# Altium schematic symbol library mLRS_RX.SCHLIB: 4 symbols
Pins are listed as number, name and electrical type; pins without a type are passive.

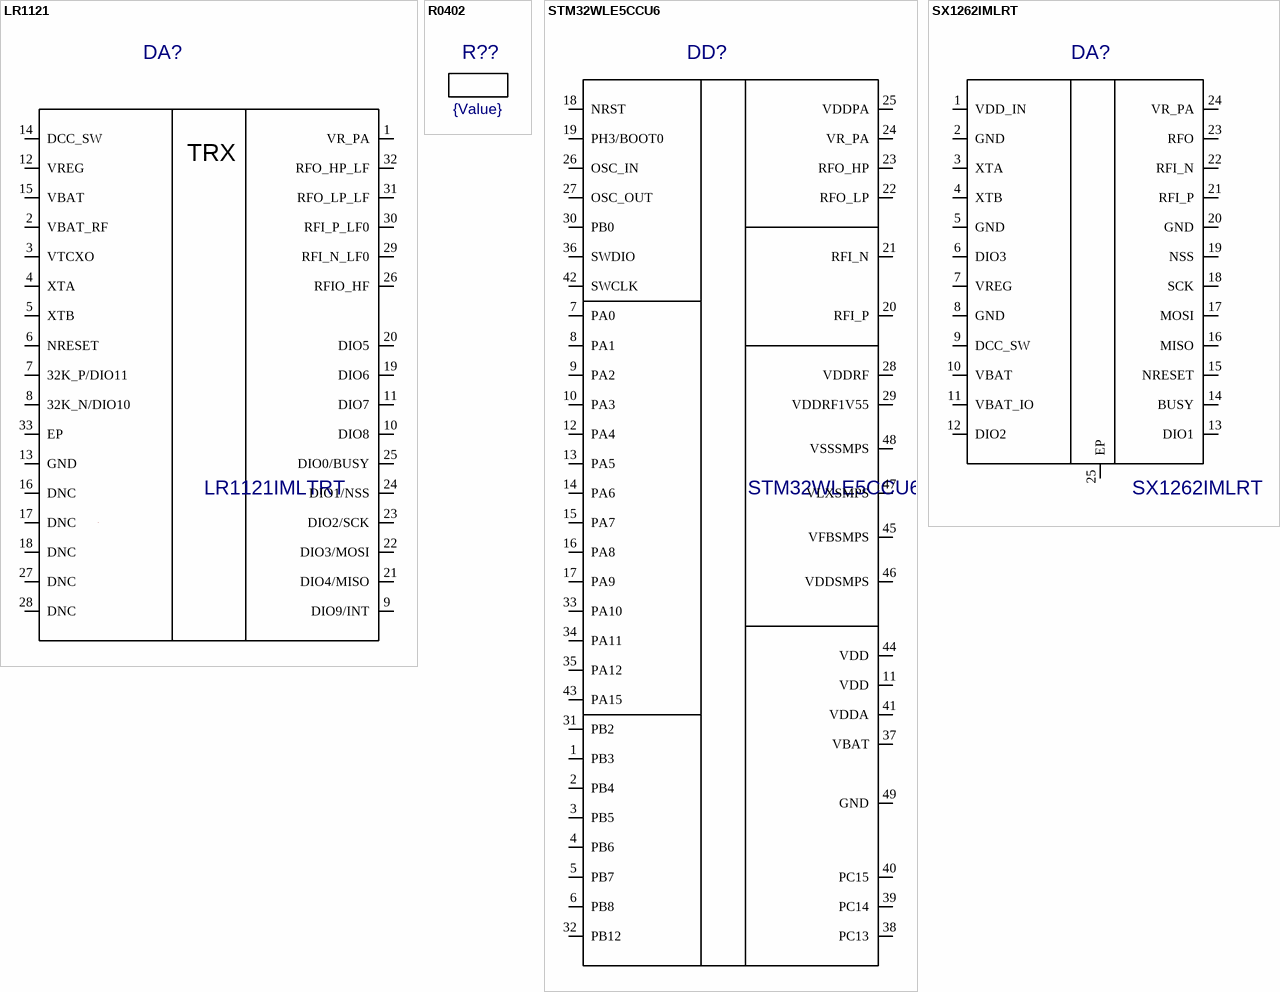
[diagram p0: symbols LR1121 to SX1262IMLRT]

## LR1121
designator DA?, comment LR1121IMLTRT
Value: {Value}; Mounting  Method: SMD
footprint QFN32 (QFN, 32-Leads, Body 5,00x5,00mm, Pitch 0,50mm, Thermal Pad 3,60x3,60mm, IPC Medium Density)
pins: 1 VR_PA, 2 VBAT_RF, 3 VTCXO, 4 XTA, 5 XTB, 6 NRESET, 7 32K_P/DIO11, 8 32K_N/DIO10, 9 DIO9/INT, 10 DIO8, 11 DIO7, 12 VREG, 13 GND, 14 DCC_SW, 15 VBAT, 16 DNC, 17 DNC, 18 DNC, 19 DIO6, 20 DIO5, 21 DIO4/MISO, 22 DIO3/MOSI, 23 DIO2/SCK, 24 DIO1/NSS, 25 DIO0/BUSY, 26 RFIO_HF, 27 DNC, 28 DNC, 29 RFI_N_LF0, 30 RFI_P_LF0, 31 RFO_LP_LF, 32 RFO_HP_LF, 33 EP
text: TRX

## R0402
designator R??  value {Value}  (hidden comment: R0402)
Mounting  Method: SMD
footprint R0402
pins: 1, 2

## STM32WLE5CCU6
designator DD?
Value: {Value}; Mounting  Method: SMD
pins: 1 PB3, 2 PB4, 3 PB5, 4 PB6, 5 PB7, 6 PB8, 7 PA0, 8 PA1, 9 PA2, 10 PA3, 11 VDD, 12 PA4, 13 PA5, 14 PA6, 15 PA7, 16 PA8, 17 PA9, 18 NRST, 19 PH3/BOOT0, 20 RFI_P, 21 RFI_N, 22 RFO_LP, 23 RFO_HP, 24 VR_PA, 25 VDDPA, 26 OSC_IN, 27 OSC_OUT, 28 VDDRF, 29 VDDRF1V55, 30 PB0, 31 PB2, 32 PB12, 33 PA10, 34 PA11, 35 PA12, 36 SWDIO, 37 VBAT, 38 PC13, 39 PC14, 40 PC15, 41 VDDA, 42 SWCLK, 43 PA15, 44 VDD, 45 VFBSMPS, 46 VDDSMPS, 47 VLXSMPS, 48 VSSSMPS, 49 GND

## SX1262IMLRT
designator DA?
Value: {Value}; Mounting  Method: SMD
pins: 1 VDD_IN, 2 GND, 3 XTA, 4 XTB, 5 GND, 6 DIO3, 7 VREG, 8 GND, 9 DCC_SW, 10 VBAT, 11 VBAT_IO, 12 DIO2, 13 DIO1, 14 BUSY, 15 NRESET, 16 MISO, 17 MOSI, 18 SCK, 19 NSS, 20 GND, 21 RFI_P, 22 RFI_N, 23 RFO, 24 VR_PA, 25 EP